# Altium schematic symbol library TJ8S06M3L_T6L1_NQ_.SchLib: 1 symbol
Pins are listed as number, name and electrical type; pins without a type are passive.

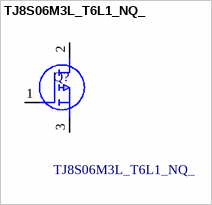
[diagram p0: symbol TJ8S06M3L_T6L1_NQ_]

## TJ8S06M3L_T6L1_NQ_
designator Q?
MOSFET P-Ch MOS -8A -60V 27W 890pF 0.104; Manufacturer_Name: Toshiba; Manufacturer_Part_Number: TJ8S06M3L(T6L1,NQ); Geometry.Height: 2mm; Mouser Part Number: 757-TJ8S06M3LT6L1NQ; Mouser Price/Stock: https://www.mouser.co.uk/ProductDetail/Toshiba/TJ8S06M3LT6L1NQ?qs=QrGA9tEX17PEUG7KazRO1Q%3D%3D; Arrow Part Number: TJ8S06M3L(T6L1,NQ); Arrow Price/Stock: https://www.arrow.com/en/products/tj8s06m3l-t6l1nq/toshiba?region=nac; Datasheet Link: http://toshiba.semicon-storage.com/info/docget.jsp?did=22588&prodName=TJ8S06M3L
footprint TJ8S06M3LT6L1NQ
pins: 1 G, 2 D, 3 S